# Altium footprint library samtec-ssw.PcbLib: 7 footprints
Each footprint in its own frame and in the unit in brackets; x right, y up, seen from the top. Pads: shape width x height; smd on the part's side, far side on the other; paste and mask are expansions set on the pad; w line width, h text height; cw(c..) or ccw(c..) is an arc to the next point about the centre after c.
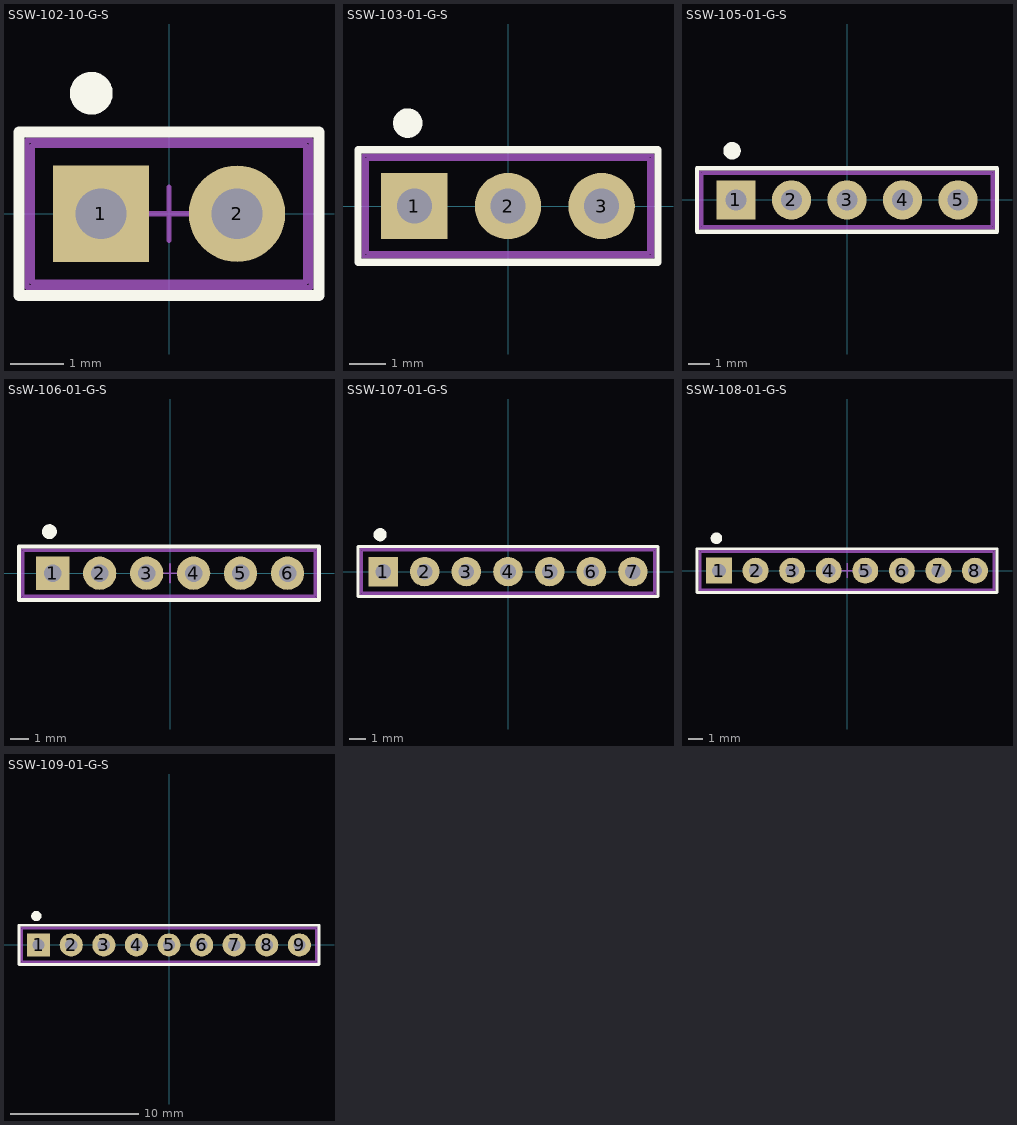
[diagram p0: the footprints below, top view; thin cyan lines are the x and y axes]

## SSW-102-10-G-S [mm] ".025\"  SQ  POST HEADER 2.54mm 2x1"
height 8.48
pads (2):
  rect 1.8x1.8 hole 0.95: 1(-1.27,0)
  round 1.8 hole 0.95: 2(1.27,0)
Top Overlay:
  circle w0.4: c-1.45,2.25 r0.2
  lines w0.2: -2.8,-1.525 -2.8,1.525 2.8,1.525 2.8,-1.525 -2.8,-1.525
Mechanical 13:
  lines w0.1: -0.5,0 0.5,0 ; 0,-0.5 0,0.5 ; -2.55,-1.275 -2.55,1.275 2.55,1.275 2.55,-1.275 -2.55,-1.275
Mechanical 15:
  lines w0.1: -2.65,-1.375 -2.65,1.375 2.65,1.375 2.65,-1.375 -2.65,-1.375
  text ".Designator" at 0.225,-2.55 h0.5
3D body: height 8.38, standoff -2.54, extent -2.54,-1.27 2.54,1.27

## SSW-103-01-G-S [mm] ".025\"  SQ  POST HEADER 2.54mm 3 Positions"
height 8.48
pads (3):
  rect 1.8x1.8 hole 0.95: 1(-2.54,0)
  round 1.8 hole 0.95: 2(0,0) 3(2.54,0)
Top Overlay:
  circle w0.4: c-2.72,2.25 r0.2
  lines w0.2: -4.07,-1.525 -4.07,1.525 4.07,1.525 4.07,-1.525 -4.07,-1.525
Mechanical 13:
  lines w0.1: -0.5,0 0.5,0 ; 0,-0.5 0,0.5 ; -3.82,-1.275 -3.82,1.275 3.82,1.275 3.82,-1.275 -3.82,-1.275
Mechanical 15:
  lines w0.1: -3.92,-1.375 -3.92,1.375 3.92,1.375 3.92,-1.375 -3.92,-1.375
  text ".Designator" at 0.225,-2.55 h0.5
3D body: height 8.38, standoff -2.54, extent -3.873,-1.27 3.873,1.27

## SSW-105-01-G-S [mm] ".025\"  SQ  POST HEADER 2.54mm 5 Positions"
height 8.48
pads (5):
  rect 1.8x1.8 hole 0.95: 1(-5.08,0)
  round 1.8 hole 0.95: 2(-2.54,0) 3(0,0) 4(2.54,0) 5(5.08,0)
Top Overlay:
  circle w0.4: c-5.26,2.25 r0.2
  lines w0.2: -6.864,-1.45 6.864,-1.45 6.864,1.45 -6.864,1.45 -6.864,-1.45
Mechanical 13:
  lines w0.1: -0.5,0 0.5,0 ; 0,-0.5 0,0.5 ; -6.614,-1.2 6.614,-1.2 6.614,1.2 -6.614,1.2 -6.614,-1.2
Mechanical 15:
  lines w0.1: -6.714,-1.3 6.714,-1.3 6.714,1.3 -6.714,1.3 -6.714,-1.3
  text ".Designator" at -2.525,-0.375 h0.8
3D body: height 8.51, standoff -2.64, extent -6.604,-1.207 6.604,1.207

## SsW-106-01-G-S [mm] ".025\"  SQ  RECEPTACLE 2.54mm 6 Positions"
height 8.48
pads (6):
  rect 1.8x1.8 hole 0.95: 1(-6.35,0)
  round 1.8 hole 0.95: 2(-3.81,0) 3(-1.27,0) 4(1.27,0) 5(3.81,0) 6(6.35,0)
Top Overlay:
  circle w0.4: c-6.53,2.25 r0.2
  lines w0.2: -8.175,-1.45 -8.175,1.45 8.05,1.45 8.05,-1.45 -8.175,-1.45
Mechanical 13:
  lines w0.1: -0.5,0 0.5,0 ; 0,-0.5 0,0.5 ; -7.925,-1.2 -7.925,1.2 7.8,1.2 7.8,-1.2 -7.925,-1.2
Mechanical 15:
  lines w0.1: -8.025,-1.3 -8.025,1.3 7.9,1.3 7.9,-1.3 -8.025,-1.3
  text ".Designator" at -2.54,-0.635 h0.8
3D body: height 8.51, standoff -2.64, extent -7.938,-1.207 7.81,1.207

## SSW-107-01-G-S [mm] ".025\"  SQ  POST HEADER 2.54mm 7 Positions"
height 8.48
pads (7):
  rect 1.8x1.8 hole 0.95: 1(-7.62,0)
  round 1.8 hole 0.95: 2(-5.08,0) 3(-2.54,0) 4(0,0) 5(2.54,0) 6(5.08,0) 7(7.62,0)
Top Overlay:
  circle w0.4: c-7.8,2.25 r0.2
  lines w0.2: -9.15,-1.525 9.15,-1.525 9.15,1.525 -9.15,1.525 -9.15,-1.525
Mechanical 13:
  lines w0.1: -0.5,0 0.5,0 ; 0,-0.5 0,0.5 ; -8.9,-1.275 8.9,-1.275 8.9,1.275 -8.9,1.275 -8.9,-1.275
Mechanical 15:
  lines w0.1: -9,-1.375 9,-1.375 9,1.375 -9,1.375 -9,-1.375
  text ".Designator" at -2.005,-0.267 h0.8
3D body: height 8.38, standoff -2.54, extent -8.953,-1.27 8.953,1.27

## SSW-108-01-G-S [mm] ".025\"  SQ  POST HEADER 2.54mm 8 Positions"
height 8.48
pads (8):
  rect 1.8x1.8 hole 0.95: 1(-8.89,0)
  round 1.8 hole 0.95: 2(-6.35,0) 3(-3.81,0) 4(-1.27,0) 5(1.27,0) 6(3.81,0) 7(6.35,0) 8(8.89,0)
Top Overlay:
  circle w0.4: c-9.07,2.25 r0.2
  lines w0.2: -10.42,-1.525 10.42,-1.525 10.42,1.525 -10.42,1.525 -10.42,-1.525
Mechanical 13:
  lines w0.1: -0.5,0 0.5,0 ; 0,-0.5 0,0.5 ; -10.17,-1.275 10.17,-1.275 10.17,1.275 -10.17,1.275 -10.17,-1.275
Mechanical 15:
  lines w0.1: -10.27,-1.375 10.27,-1.375 10.27,1.375 -10.27,1.375 -10.27,-1.375
  text ".Designator" at -1.905,-0.635 h0.8
3D body: height 8.38, standoff -2.54, extent -10.223,-1.27 10.223,1.27

## SSW-109-01-G-S [mm] ".025\"  SQ  POST HEADER 2.54mm 9 Positions"
height 8.48
pads (9):
  rect 1.8x1.8 hole 0.95: 1(-10.16,0)
  round 1.8 hole 0.95: 2(-7.62,0) 3(-5.08,0) 4(-2.54,0) 5(0,0) 6(2.54,0) 7(5.08,0) 8(7.62,0) 9(10.16,0)
Top Overlay:
  circle w0.4: c-10.34,2.25 r0.2
  lines w0.2: -11.69,-1.525 -11.69,1.525 11.69,1.525 11.69,-1.525 -11.69,-1.525
Mechanical 13:
  lines w0.1: -0.5,0 0.5,0 ; 0,-0.5 0,0.5 ; -11.44,-1.275 -11.44,1.275 11.44,1.275 11.44,-1.275 -11.44,-1.275
Mechanical 15:
  lines w0.1: -11.54,-1.375 -11.54,1.375 11.54,1.375 11.54,-1.375 -11.54,-1.375
  text ".Designator" at -3.6,-0.2 h0.8
3D body: height 8.38, standoff -2.54, extent -11.493,-1.27 11.493,1.27